# Altium integrated library 3way jumper.IntLib: 1 symbol
Pins are listed as number, name and electrical type; pins without a type are passive.

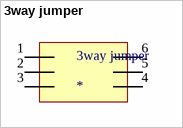
[diagram p0: symbol 3way jumper]

## 3way jumper
designator 3way jumper
footprint PCBComponent_1
pins: 1, 2, 3, 4, 5, 6